# Altium integrated library Mechanical And Graphical.IntLib: 10 symbols
Pins are listed as number, name and electrical type; pins without a type are passive.

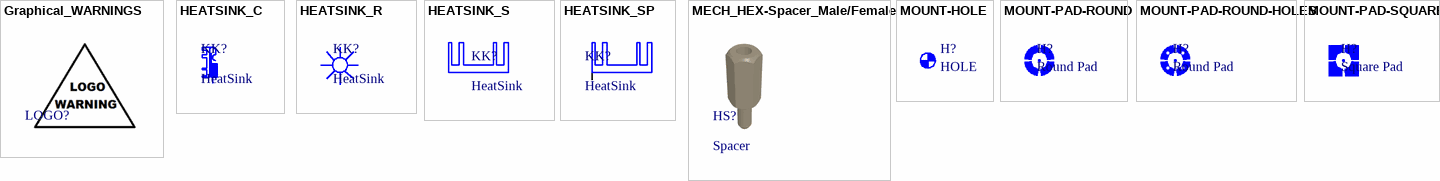
[diagram p0: symbols Graphical_WARNINGS to MOUNT-PAD-SQUARE]

## Graphical_WARNINGS
designator LOGO?  (no BOM)
WARNING & LOGO; Company: SJ Libraries; Designer: Eng. Saeid Jorablo; Mounting Technology: Surface Mount\Through-Hole; ComponentLink1Description: Datasheet; Pin Count: 0; Update Date: 6/3/2012; Category: MISC; HelpURL: http://s3.picofile.com/file/7443264187/Coming_Soon_logo.gif
footprint LOGO SPEAKER
footprint LOGO USB1 (General USB Logo)
footprint WARNING
footprint WARNING ESD
footprint LOGO RESET
footprint LOGO Saeid1
footprint LOGO ALTIUM1
footprint LOGO ALTIUM2
footprint LOGO USB2 (High Speed USB Logo)
footprint LOGO USB3 (USB Certified Logo)
footprint WARNING Sensitive Devices
7 alternate drawings of the same symbol

## HEATSINK_C
designator KK?, comment HeatSink  (no BOM)
On Chip Heat Sink
footprint HS_PF752

## HEATSINK_R
designator KK?, comment HeatSink  (no BOM)
Round Heat Sink
footprint HS_KK185
footprint HS_KK505

## HEATSINK_S
designator KK?, comment HeatSink  (no BOM)
Simple Heat Sink
footprint HS_D01PA
footprint HS_D01S
footprint HS_D02A-L
footprint HS_D02PA
footprint HS_D02S
footprint HS_D03PA
footprint HS_D03S
footprint HS_FK201
footprint HS_FK209
footprint HS_FK213
footprint HS_SK12/25
footprint HS_SK13/35
footprint HS_SK36/37
footprint HS_SK36/50
footprint HS_SK36/75
footprint HS_SK68/37
footprint HS_SK68/50
footprint HS_SK95-2M3
footprint HS_SK96/84
footprint HS_SK104
footprint HS_SK125/50
footprint HS_SK125/84
footprint HS_SK129-HOLE

## HEATSINK_SP
designator KK?, comment HeatSink  (no BOM)
Simple Heat Sink with Mounting Hole
footprint HS_D01PA-PAD
footprint HS_D02PA-PAD
footprint HS_D03PA-PAD
footprint HS_FK218
footprint HS_FK222
footprint HS_SK104-PAD
footprint HS_SK129
pins: P Pad "Mounting Hole(s)"

## MECH_HEX-Spacer_Male/Female
designator HS?, comment Spacer
footprint 855-R30-3000402 (HARWiN Metric HEX Spacer; Threaded-Brass/Nickel; Male/Female; M3 X 04 mm)
footprint 855-R30-3000502 (HARWiN Metric HEX Spacer; Threaded-Brass/Nickel; Male/Female; M3 X 05 mm)
footprint 855-R30-3000602 (HARWiN Metric HEX Spacer; Threaded-Brass/Nickel; Male/Female; M3 X 06 mm)
footprint 855-R30-3000702 (HARWiN Metric HEX Spacer; Threaded-Brass/Nickel; Male/Female; M3 X 07 mm)
footprint 855-R30-3000802 (HARWiN Metric HEX Spacer; Threaded-Brass/Nickel; Male/Female; M3 X 08 mm)
footprint 855-R30-3000902 (HARWiN Metric HEX Spacer; Threaded-Brass/Nickel; Male/Female; M3 X 09 mm)
footprint 855-R30-3001002 (HARWiN Metric HEX Spacer; Threaded-Brass/Nickel; Male/Female; M3 X 10 mm)
footprint 855-R30-3001102 (HARWiN Metric HEX Spacer; Threaded-Brass/Nickel; Male/Female; M3 X 11 mm)
footprint 855-R30-3001202 (HARWiN Metric HEX Spacer; Threaded-Brass/Nickel; Male/Female; M3 X 12 mm)
footprint 855-R30-3001302 (HARWiN Metric HEX Spacer; Threaded-Brass/Nickel; Male/Female; M3 X 13 mm)
footprint 855-R30-3001402 (HARWiN Metric HEX Spacer; Threaded-Brass/Nickel; Male/Female; M3 X 14 mm)
footprint 855-R30-3001502 (HARWiN Metric HEX Spacer; Threaded-Brass/Nickel; Male/Female; M3 X 15 mm)
footprint 855-R30-3001602 (HARWiN Metric HEX Spacer; Threaded-Brass/Nickel; Male/Female; M3 X 16 mm)
footprint 855-R30-3001802 (HARWiN Metric HEX Spacer; Threaded-Brass/Nickel; Male/Female; M3 X 18 mm)
footprint 855-R30-3001902 (HARWiN Metric HEX Spacer; Threaded-Brass/Nickel; Male/Female; M3 X 19 mm)
footprint 855-R30-3002002 (HARWiN Metric HEX Spacer; Threaded-Brass/Nickel; Male/Female; M3 X 20 mm)
footprint 855-R30-3002402 (HARWiN Metric HEX Spacer; Threaded-Brass/Nickel; Male/Female; M3 X 24 mm)
footprint 855-R30-3002502 (HARWiN Metric HEX Spacer; Threaded-Brass/Nickel; Male/Female; M3 X 25 mm)
footprint 855-R30-3003002 (HARWiN Metric HEX Spacer; Threaded-Brass/Nickel; Male/Female; M3 X 30 mm)
footprint 855-R40-3000602 (HARWiN Metric HEX Spacer; Threaded-Brass/Nickel; Male/Female; M4 X 06 mm)
footprint 855-R40-3000702 (HARWiN Metric HEX Spacer; Threaded-Brass/Nickel; Male/Female; M4 X 07 mm)
footprint 855-R40-3000802 (HARWiN Metric HEX Spacer; Threaded-Brass/Nickel; Male/Female; M4 X 08 mm)
footprint 855-R40-3000902 (HARWiN Metric HEX Spacer; Threaded-Brass/Nickel; Male/Female; M4 X 09 mm)
footprint 855-R40-3001002 (HARWiN Metric HEX Spacer; Threaded-Brass/Nickel; Male/Female; M4 X 10 mm)
footprint 855-R40-3001102 (HARWiN Metric HEX Spacer; Threaded-Brass/Nickel; Male/Female; M4 X 11 mm)
footprint 855-R40-3001202 (HARWiN Metric HEX Spacer; Threaded-Brass/Nickel; Male/Female; M4 X 12 mm)
footprint 855-R40-3001302 (HARWiN Metric HEX Spacer; Threaded-Brass/Nickel; Male/Female; M4 X 13 mm)
footprint 855-R40-3001402 (HARWiN Metric HEX Spacer; Threaded-Brass/Nickel; Male/Female; M4 X 14 mm)
footprint 855-R40-3001502 (HARWiN Metric HEX Spacer; Threaded-Brass/Nickel; Male/Female; M4 X 15 mm)
footprint 855-R40-3001602 (HARWiN Metric HEX Spacer; Threaded-Brass/Nickel; Male/Female; M4 X 16 mm)
footprint 855-R40-3001802 (HARWiN Metric HEX Spacer; Threaded-Brass/Nickel; Male/Female; M4 X 18 mm)
footprint 855-R40-3002002 (HARWiN Metric HEX Spacer; Threaded-Brass/Nickel; Male/Female; M4 X 20 mm)
footprint 855-R40-3002502 (HARWiN Metric HEX Spacer; Threaded-Brass/Nickel; Male/Female; M4 X 25 mm)
footprint 855-R40-3003002 (HARWiN Metric HEX Spacer; Threaded-Brass/Nickel; Male/Female; M4 X 30 mm)

## MOUNT-HOLE
designator H?, comment HOLE  (no BOM)
MOUNTING HOLE with drill center marker
footprint P2.8 (MOUNTING HOLE 2.8 mm with drill center)
footprint P3.0 (MOUNTING HOLE 3.0 mm with drill center)
footprint P3.2 (MOUNTING HOLE 3.2 mm with drill center)
footprint P3.3 (MOUNTING HOLE 3.3 mm with drill center)
footprint P3.6 (MOUNTING HOLE 3.6 mm with drill center)
footprint P4.1 (MOUNTING HOLE 4.1 mm with drill center)
footprint P4.5 (MOUNTING HOLE 4.5 mm with drill center)
footprint P5.0 (MOUNTING HOLE 5.0 mm with drill center)
footprint P5.5 (MOUNTING HOLE 5.5 mm with drill center)
footprint P4.3 (MOUNTING HOLE 4.3 mm with drill center)

## MOUNT-PAD-ROUND
designator H?, comment Round Pad  (no BOM)
MOUNTING PAD, round
footprint P2.8C (MOUNTING PAD 2.8 mm, round, 5.3 mm Diameter)
footprint P3.0C (MOUNTING PAD 3.0 mm, round, 5.8 mm Diameter)
footprint P3.2C (MOUNTING PAD 3.2 mm, round, 5.8 mm Diameter)
footprint P3.3C (MOUNTING PAD 3.3 mm, round, 5.8 mm Diameter)
footprint P3.6C (MOUNTING PAD 3.6 mm, round, 5.8 mm Diameter)
footprint P4.1C (MOUNTING PAD 4.1 mm, round, 8.0 mm Diameter)
footprint P4.5C (MOUNTING PAD 4.5 mm, round, 9.0 mm Diameter)
footprint P5.0C (MOUNTING PAD 5.0 mm, round, 9.0 mm Diameter)
footprint P5.5C (MOUNTING PAD 5.5 mm, round, 9.0 mm Diameter)
footprint P4.3C (MOUNTING PAD 4.3 mm, round, 9.0 mm Diameter)
pins: P hidden to SHIELD

## MOUNT-PAD-ROUND-HOLES
designator H?, comment Round Pad  (no BOM)
MOUNTING PAD, round with holes around
footprint P2.8CH (MOUNTING PAD 2.8 mm, round, 5.3 mm Diameter; with Holes around it)
footprint P3.0CH (MOUNTING PAD 3.0 mm, round, 5.8 mm Diameter; with Holes around it)
footprint P3.2CH (MOUNTING PAD 3.2 mm, round, 5.8 mm Diameter; with Holes around it)
footprint P3.3CH (MOUNTING PAD 3.3 mm, round, 5.8 mm Diameter; with Holes around it)
footprint P3.6CH (MOUNTING PAD 3.6 mm, round, 5.8 mm Diameter; with Holes around it)
footprint P4.1CH (MOUNTING PAD 4.1 mm, round, 8.0 mm Diameter; with Holes around it)
footprint P4.5CH (MOUNTING PAD 4.5 mm, round, 9.0 mm Diameter; with Holes around it)
footprint P5.0CH (MOUNTING PAD 5.0 mm, round, 9.0 mm Diameter; with Holes around it)
footprint P5.5CH (MOUNTING PAD 5.5 mm, round, 9.0 mm Diameter; with Holes around it)
footprint P4.3CH (MOUNTING PAD 4.3 mm, round, 9.0 mm Diameter; with Holes around it)
pins: P Pad hidden to SHIELD

## MOUNT-PAD-SQUARE
designator H?, comment Square Pad  (no BOM)
MOUNTING PAD, square
footprint P2.8SQ (MOUNTING PAD 2.8 mm, square, 5.8x5.8 mm)
footprint P3.0SQ (MOUNTING PAD 3.0 mm, square, 5.8x5.8 mm)
footprint P3.2SQ (MOUNTING PAD 3.2 mm, square, 5.8x5.8 mm)
footprint P3.3SQ (MOUNTING PAD 3.3 mm, square, 5.8x5.8 mm)
footprint P3.6SQ (MOUNTING PAD 3.6 mm, square, 5.8x5.8 mm)
footprint P4.1SQ (MOUNTING PAD 4.1 mm, square, 9.0x9.0 mm)
footprint P4.5SQ (MOUNTING PAD 4.5 mm, square, 9.0x9.0 mm)
footprint P5.0SQ (MOUNTING PAD 5.0 mm, square, 9.0x9.0 mm)
footprint P5.5SQ (MOUNTING PAD 5.5 mm, square, 9.0x9.0 mm)
footprint P4.3SQ (MOUNTING PAD 4.3 mm, square, 9.0x9.0 mm)
pins: P Pad hidden to SHIELD